# Altium integrated library TI Power Management Linear Regulator Dual Channel LDO.IntLib: 299 symbols (part 9 of 15)
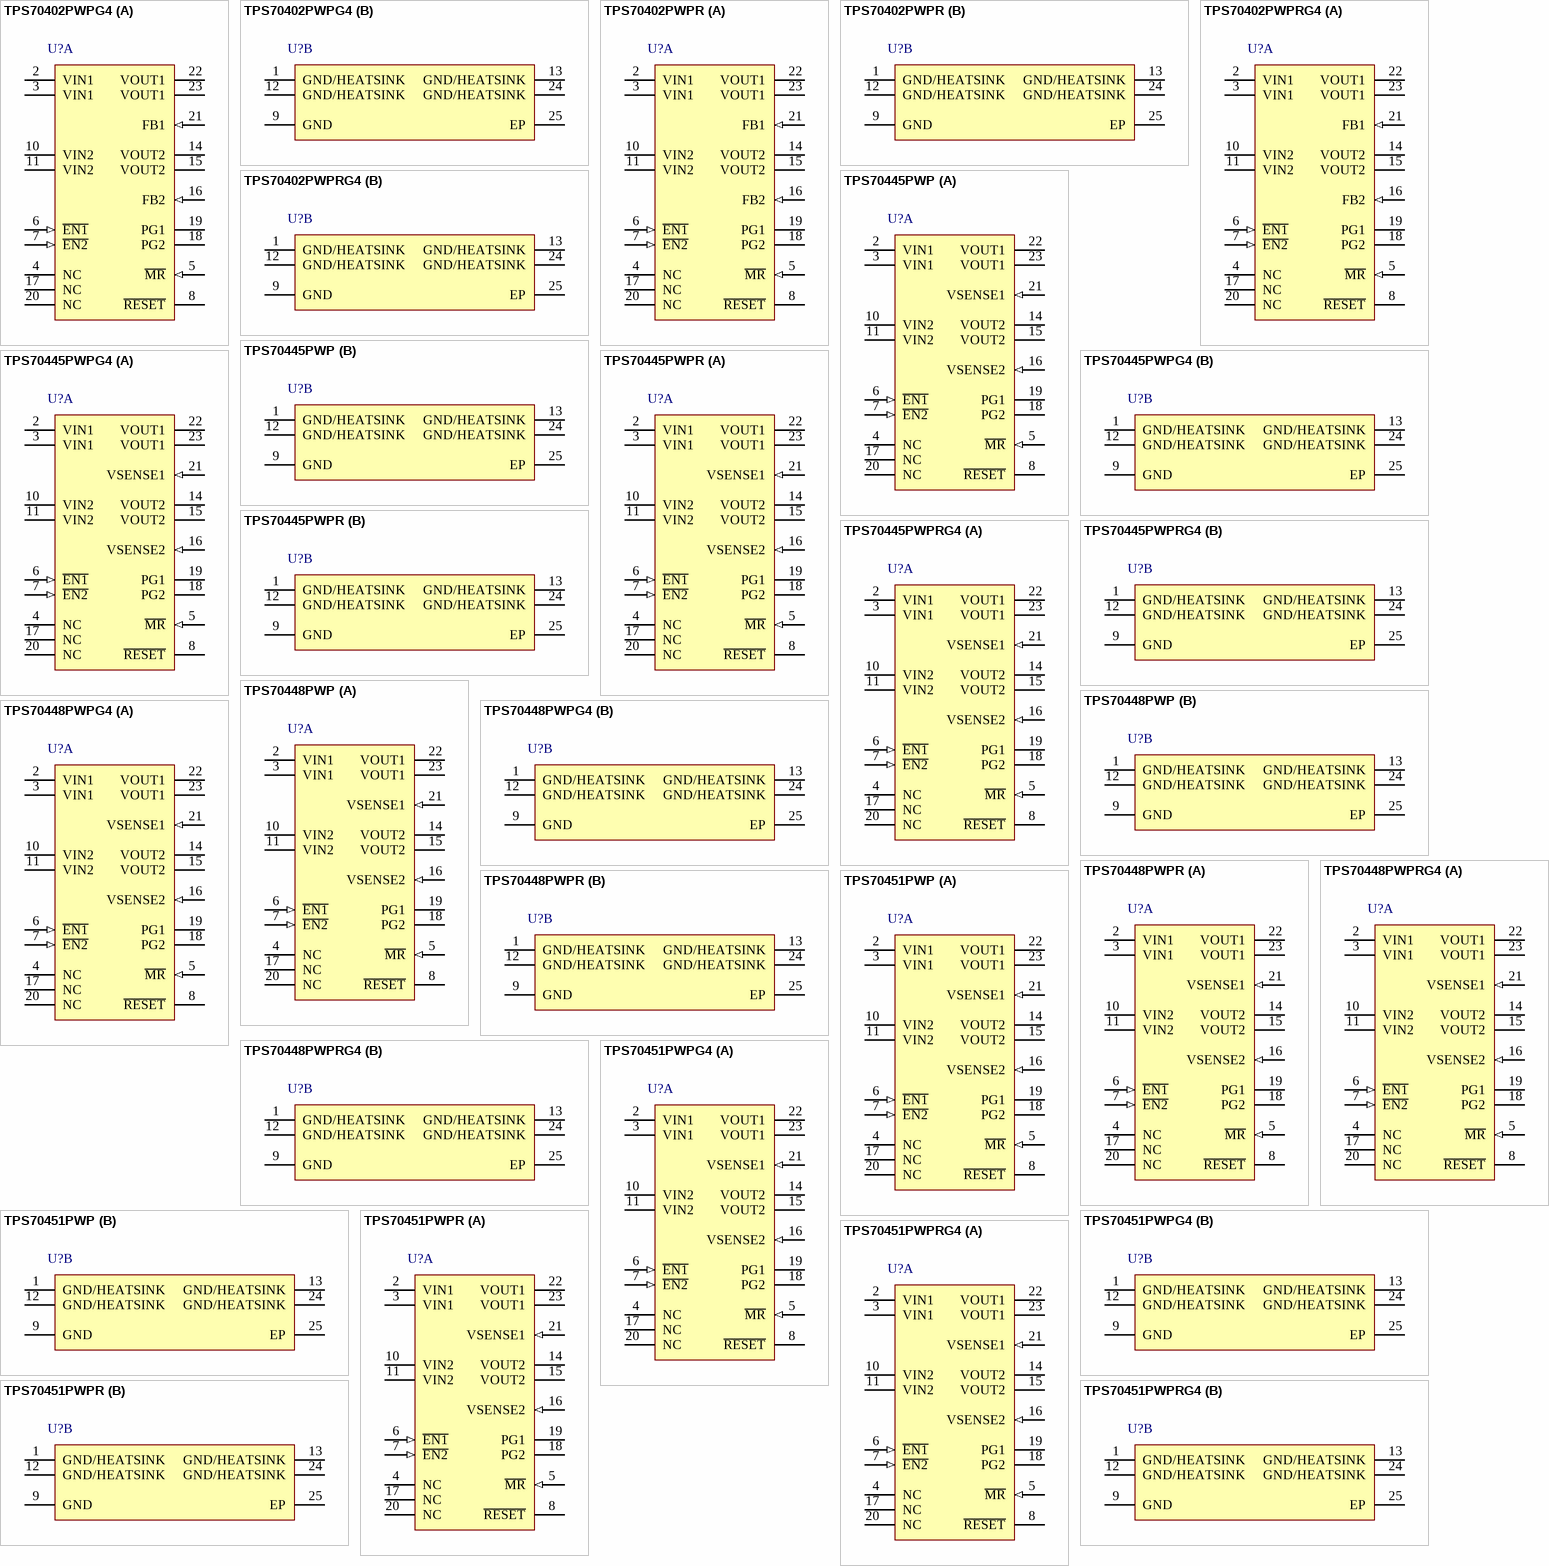
[diagram p19: symbols TPS70402PWPG4 to TPS70451PWPRG4]

## TPS70402PWPG4
designator U?
Dual Output LDO, 1 A, 2.7 to 6 V Input, with Integrated SVS, 24-pin HTSSOP (PWP), -40 to 125 degC, Green (RoHS & no Sb/Br); Manufacturer: Texas Instruments; PartNumber: TPS70402PWPG4; Iout(Max)(A): 1; Iout2(A): 2; Iq(Typ)(mA): 0.18; SubFamily: Dual Channel LDO; Vdo(Typ)(mV): 160; Vin(Max)(V): 6; Vin(Min)(V): 2.7; Vout2(Max)(V): 5.5; Vout2(Min)(V): 1.2; DatasheetVersion: SLVS307F; PackageVersion: 4073225-5/I; PackageReference: PWP24-4210X2010TP; PackageDescription: 24-Pin Plastic Small Outline, Body 4.4 x 7.8 mm, Pitch 0.65 mm; Supplier 1: Digi-Key; Supplier Part Number 1: TPS70402PWPG4-ND; Supplier 2: Farnell; Supplier Part Number 2: 1234975; Supplier 3: Newark; Supplier Part Number 3: 13M3299; Supplier 4: Mouser; Supplier Part Number 4: 595-TPS70402PWPG4; Eco-Plan: Green (RoHS & no Sb/Br); Mounting Technology: Surface Mount; Code_JEDEC: MO-153; ComponentLink1Description: Manufacturer URL; ComponentLink1URL: http://www.ti.com/; ComponentLink2Description: Datasheet; ComponentLink2URL: http://www.ti.com/general/docs/lit/getliterature.tsp?genericPartNumber=TPS70402&fileType=pdf; ComponentLink3Description: Package Specification; ComponentLink3URL: http://www.ti.com/litv/pdf/mpds372
footprint TI-PWP24-4210X2010TP_N (SOP, 24-Leads, Body 7.8x4.4mm, Pitch 0.65mm, Thermal Pad 4.205X2.005mm, IPC Medium Density)
footprint TI-PWP24-4210X2010TP_L (SOP, 24-Leads, Body 7.8x4.4mm, Pitch 0.65mm, Thermal Pad 4.205X2.005mm, IPC High Density)
footprint TI-PWP24-4210X2010TP_M (SOP, 24-Leads, Body 7.8x4.4mm, Pitch 0.65mm, Thermal Pad 4.205X2.005mm, IPC Low Density)
part A pins: 2 VIN1 (power) "Input voltage of regulator 1", 3 VIN1 (power) "Input voltage of regulator 1", 4 NC "No connection", 5 ~{MR} (in) "Manual reset input, active low, pulled up internally", 6 ~{EN1} (in) "Active low enable for VOUT1", 7 ~{EN2} (in) "Active low enable for VOUT2", 8 ~{RESET} (hiz) "Open drain output, SVS (power-on reset) signal, active low", 10 VIN2 (power) "Input voltage of regulator 2", 11 VIN2 (power) "Input voltage of regulator 2", 14 VOUT2 (power) "Output voltage of regulator 2", 15 VOUT2 (power) "Output voltage of regulator 2", 16 FB2 (in) "Regulator 2 feedback for adjustable", 17 NC "No connection", 18 PG2 (hiz) "Open drain output, low when VOUT2 voltage is less than 95% of the nominal regulated voltage", 19 PG1 (hiz) "Open drain output, low when VOUT1 voltage is less than 95% of the nominal regulated voltage", 20 NC "No connection", 21 FB1 (in) "Regulator 1 feedback for adjustable", 22 VOUT1 (power) "Output voltage of regulator 1", 23 VOUT1 (power) "Output voltage of regulator 1"
part B pins: 1 GND/HEATSINK (power) "Ground/heatsink", 9 GND (power) "Ground", 12 GND/HEATSINK (power) "Ground/heatsink", 13 GND/HEATSINK (power) "Ground/heatsink", 24 GND/HEATSINK (power) "Ground/heatsink", 25 EP "Exposed Thermal Pad"

## TPS70402PWPR
designator U?
Dual Output LDO, 1 A, 2.7 to 6 V Input, with Integrated SVS, 24-pin HTSSOP (PWP), -40 to 125 degC, Green (RoHS & no Sb/Br); Manufacturer: Texas Instruments; PartNumber: TPS70402PWPR; Iout(Max)(A): 1; Iout2(A): 2; Iq(Typ)(mA): 0.18; SubFamily: Dual Channel LDO; Vdo(Typ)(mV): 160; Vin(Max)(V): 6; Vin(Min)(V): 2.7; Vout2(Max)(V): 5.5; Vout2(Min)(V): 1.2; DatasheetVersion: SLVS307F; PackageVersion: 4073225-5/I; PackageReference: PWP24-4210X2010TP; PackageDescription: 24-Pin Plastic Small Outline, Body 4.4 x 7.8 mm, Pitch 0.65 mm; Supplier 1: Digi-Key; Supplier Part Number 1: TPS70402PWPR-ND; Supplier 2: Newark; Supplier Part Number 2: 77C0771; Supplier 3: Mouser; Supplier Part Number 3: 595-TPS70402PWPR; Eco-Plan: Green (RoHS & no Sb/Br); Mounting Technology: Surface Mount; Code_JEDEC: MO-153; ComponentLink1Description: Manufacturer URL; ComponentLink1URL: http://www.ti.com/; ComponentLink2Description: Datasheet; ComponentLink2URL: http://www.ti.com/general/docs/lit/getliterature.tsp?genericPartNumber=TPS70402&fileType=pdf; ComponentLink3Description: Package Specification; ComponentLink3URL: http://www.ti.com/litv/pdf/mpds372
footprint TI-PWP24-4210X2010TP_N (SOP, 24-Leads, Body 7.8x4.4mm, Pitch 0.65mm, Thermal Pad 4.205X2.005mm, IPC Medium Density)
footprint TI-PWP24-4210X2010TP_L (SOP, 24-Leads, Body 7.8x4.4mm, Pitch 0.65mm, Thermal Pad 4.205X2.005mm, IPC High Density)
footprint TI-PWP24-4210X2010TP_M (SOP, 24-Leads, Body 7.8x4.4mm, Pitch 0.65mm, Thermal Pad 4.205X2.005mm, IPC Low Density)
part A pins: 2 VIN1 (power) "Input voltage of regulator 1", 3 VIN1 (power) "Input voltage of regulator 1", 4 NC "No connection", 5 ~{MR} (in) "Manual reset input, active low, pulled up internally", 6 ~{EN1} (in) "Active low enable for VOUT1", 7 ~{EN2} (in) "Active low enable for VOUT2", 8 ~{RESET} (hiz) "Open drain output, SVS (power-on reset) signal, active low", 10 VIN2 (power) "Input voltage of regulator 2", 11 VIN2 (power) "Input voltage of regulator 2", 14 VOUT2 (power) "Output voltage of regulator 2", 15 VOUT2 (power) "Output voltage of regulator 2", 16 FB2 (in) "Regulator 2 feedback for adjustable", 17 NC "No connection", 18 PG2 (hiz) "Open drain output, low when VOUT2 voltage is less than 95% of the nominal regulated voltage", 19 PG1 (hiz) "Open drain output, low when VOUT1 voltage is less than 95% of the nominal regulated voltage", 20 NC "No connection", 21 FB1 (in) "Regulator 1 feedback for adjustable", 22 VOUT1 (power) "Output voltage of regulator 1", 23 VOUT1 (power) "Output voltage of regulator 1"
part B pins: 1 GND/HEATSINK (power) "Ground/heatsink", 9 GND (power) "Ground", 12 GND/HEATSINK (power) "Ground/heatsink", 13 GND/HEATSINK (power) "Ground/heatsink", 24 GND/HEATSINK (power) "Ground/heatsink", 25 EP "Exposed Thermal Pad"

## TPS70402PWPRG4
designator U?
Dual Output LDO, 1 A, 2.7 to 6 V Input, with Integrated SVS, 24-pin HTSSOP (PWP), -40 to 125 degC, Green (RoHS & no Sb/Br); Manufacturer: Texas Instruments; PartNumber: TPS70402PWPRG4; Iout(Max)(A): 1; Iout2(A): 2; Iq(Typ)(mA): 0.18; SubFamily: Dual Channel LDO; Vdo(Typ)(mV): 160; Vin(Max)(V): 6; Vin(Min)(V): 2.7; Vout2(Max)(V): 5.5; Vout2(Min)(V): 1.2; DatasheetVersion: SLVS307F; PackageVersion: 4073225-5/I; PackageReference: PWP24-4210X2010TP; PackageDescription: 24-Pin Plastic Small Outline, Body 4.4 x 7.8 mm, Pitch 0.65 mm; Supplier 1: Digi-Key; Supplier Part Number 1: TPS70402PWPRG4-ND; Supplier 2: Mouser; Supplier Part Number 2: 595-TPS70402PWPRG4; Eco-Plan: Green (RoHS & no Sb/Br); Mounting Technology: Surface Mount; Code_JEDEC: MO-153; ComponentLink1Description: Manufacturer URL; ComponentLink1URL: http://www.ti.com/; ComponentLink2Description: Datasheet; ComponentLink2URL: http://www.ti.com/general/docs/lit/getliterature.tsp?genericPartNumber=TPS70402&fileType=pdf; ComponentLink3Description: Package Specification; ComponentLink3URL: http://www.ti.com/litv/pdf/mpds372
footprint TI-PWP24-4210X2010TP_N (SOP, 24-Leads, Body 7.8x4.4mm, Pitch 0.65mm, Thermal Pad 4.205X2.005mm, IPC Medium Density)
footprint TI-PWP24-4210X2010TP_L (SOP, 24-Leads, Body 7.8x4.4mm, Pitch 0.65mm, Thermal Pad 4.205X2.005mm, IPC High Density)
footprint TI-PWP24-4210X2010TP_M (SOP, 24-Leads, Body 7.8x4.4mm, Pitch 0.65mm, Thermal Pad 4.205X2.005mm, IPC Low Density)
part A pins: 2 VIN1 (power) "Input voltage of regulator 1", 3 VIN1 (power) "Input voltage of regulator 1", 4 NC "No connection", 5 ~{MR} (in) "Manual reset input, active low, pulled up internally", 6 ~{EN1} (in) "Active low enable for VOUT1", 7 ~{EN2} (in) "Active low enable for VOUT2", 8 ~{RESET} (hiz) "Open drain output, SVS (power-on reset) signal, active low", 10 VIN2 (power) "Input voltage of regulator 2", 11 VIN2 (power) "Input voltage of regulator 2", 14 VOUT2 (power) "Output voltage of regulator 2", 15 VOUT2 (power) "Output voltage of regulator 2", 16 FB2 (in) "Regulator 2 feedback for adjustable", 17 NC "No connection", 18 PG2 (hiz) "Open drain output, low when VOUT2 voltage is less than 95% of the nominal regulated voltage", 19 PG1 (hiz) "Open drain output, low when VOUT1 voltage is less than 95% of the nominal regulated voltage", 20 NC "No connection", 21 FB1 (in) "Regulator 1 feedback for adjustable", 22 VOUT1 (power) "Output voltage of regulator 1", 23 VOUT1 (power) "Output voltage of regulator 1"
part B pins: 1 GND/HEATSINK (power) "Ground/heatsink", 9 GND (power) "Ground", 12 GND/HEATSINK (power) "Ground/heatsink", 13 GND/HEATSINK (power) "Ground/heatsink", 24 GND/HEATSINK (power) "Ground/heatsink", 25 EP "Exposed Thermal Pad"

## TPS70445PWP
designator U?
Dual Output LDO, 1 A, Fixed 3.3, 1.2 V Output, 2.7 to 6 V Input, with Integrated SVS, 24-pin HTSSOP (PWP), -40 to 125 degC, Green (RoHS & no Sb/Br); Manufacturer: Texas Instruments; PartNumber: TPS70445PWP; Iout(Max)(A): 1; Iout2(A): 2; Iq(Typ)(mA): 0.18; SubFamily: Dual Channel LDO; Vdo(Typ)(mV): 160; Vin(Max)(V): 6; Vin(Min)(V): 2.7; Vout(Max)(V): 3.3; Vout2(Max)(V): 1.2; DatasheetVersion: SLVS307F; PackageVersion: 4073225-5/I; PackageReference: PWP24-4210X2010TP; PackageDescription: 24-Pin Plastic Small Outline, Body 4.4 x 7.8 mm, Pitch 0.65 mm; Supplier 1: Digi-Key; Supplier Part Number 1: 296-8027-5-ND; Supplier 2: Newark; Supplier Part Number 2: 77C0772; Supplier 3: Mouser; Supplier Part Number 3: 595-TPS70445PWP; Eco-Plan: Green (RoHS & no Sb/Br); Fixed Output Options(V): 3.3, 1.2; Vout(Min)(V): 3.3; Vout2(Min)(V): 1.2; Mounting Technology: Surface Mount; Code_JEDEC: MO-153; ComponentLink1Description: Manufacturer URL; ComponentLink1URL: http://www.ti.com/; ComponentLink2Description: Datasheet; ComponentLink2URL: http://www.ti.com/general/docs/lit/getliterature.tsp?genericPartNumber=TPS70445&fileType=pdf; ComponentLink3Description: Package Specification; ComponentLink3URL: http://www.ti.com/litv/pdf/mpds372
footprint TI-PWP24-4210X2010TP_N (SOP, 24-Leads, Body 7.8x4.4mm, Pitch 0.65mm, Thermal Pad 4.205X2.005mm, IPC Medium Density)
footprint TI-PWP24-4210X2010TP_L (SOP, 24-Leads, Body 7.8x4.4mm, Pitch 0.65mm, Thermal Pad 4.205X2.005mm, IPC High Density)
footprint TI-PWP24-4210X2010TP_M (SOP, 24-Leads, Body 7.8x4.4mm, Pitch 0.65mm, Thermal Pad 4.205X2.005mm, IPC Low Density)
part A pins: 2 VIN1 (power) "Input voltage of regulator 1", 3 VIN1 (power) "Input voltage of regulator 1", 4 NC "No connection", 5 ~{MR} (in) "Manual reset input, active low, pulled up internally", 6 ~{EN1} (in) "Active low enable for VOUT1", 7 ~{EN2} (in) "Active low enable for VOUT2", 8 ~{RESET} (hiz) "Open drain output, SVS (power-on reset) signal, active low", 10 VIN2 (power) "Input voltage of regulator 2", 11 VIN2 (power) "Input voltage of regulator 2", 14 VOUT2 (power) "Output voltage of regulator 2", 15 VOUT2 (power) "Output voltage of regulator 2", 16 VSENSE2 (in) "Regulator 2 output voltage sense", 17 NC "No connection", 18 PG2 (hiz) "Open drain output, low when VOUT2 voltage is less than 95% of the nominal regulated voltage", 19 PG1 (hiz) "Open drain output, low when VOUT1 voltage is less than 95% of the nominal regulated voltage", 20 NC "No connection", 21 VSENSE1 (in) "Regulator 1 output voltage sense", 22 VOUT1 (power) "Output voltage of regulator 1", 23 VOUT1 (power) "Output voltage of regulator 1"
part B pins: 1 GND/HEATSINK (power) "Ground/heatsink", 9 GND (power) "Ground", 12 GND/HEATSINK (power) "Ground/heatsink", 13 GND/HEATSINK (power) "Ground/heatsink", 24 GND/HEATSINK (power) "Ground/heatsink", 25 EP "Exposed Thermal Pad"

## TPS70445PWPG4
designator U?
Dual Output LDO, 1 A, Fixed 3.3, 1.2 V Output, 2.7 to 6 V Input, with Integrated SVS, 24-pin HTSSOP (PWP), -40 to 125 degC, Green (RoHS & no Sb/Br); Manufacturer: Texas Instruments; PartNumber: TPS70445PWPG4; Iout(Max)(A): 1; Iout2(A): 2; Iq(Typ)(mA): 0.18; SubFamily: Dual Channel LDO; Vdo(Typ)(mV): 160; Vin(Max)(V): 6; Vin(Min)(V): 2.7; Vout(Max)(V): 3.3; Vout2(Max)(V): 1.2; DatasheetVersion: SLVS307F; PackageVersion: 4073225-5/I; PackageReference: PWP24-4210X2010TP; PackageDescription: 24-Pin Plastic Small Outline, Body 4.4 x 7.8 mm, Pitch 0.65 mm; Supplier 1: Digi-Key; Supplier Part Number 1: TPS70445PWPG4-ND; Supplier 2: Mouser; Supplier Part Number 2: 595-TPS70445PWPG4; Eco-Plan: Green (RoHS & no Sb/Br); Fixed Output Options(V): 3.3, 1.2; Vout(Min)(V): 3.3; Vout2(Min)(V): 1.2; Mounting Technology: Surface Mount; Code_JEDEC: MO-153; ComponentLink1Description: Manufacturer URL; ComponentLink1URL: http://www.ti.com/; ComponentLink2Description: Datasheet; ComponentLink2URL: http://www.ti.com/general/docs/lit/getliterature.tsp?genericPartNumber=TPS70445&fileType=pdf; ComponentLink3Description: Package Specification; ComponentLink3URL: http://www.ti.com/litv/pdf/mpds372
footprint TI-PWP24-4210X2010TP_N (SOP, 24-Leads, Body 7.8x4.4mm, Pitch 0.65mm, Thermal Pad 4.205X2.005mm, IPC Medium Density)
footprint TI-PWP24-4210X2010TP_L (SOP, 24-Leads, Body 7.8x4.4mm, Pitch 0.65mm, Thermal Pad 4.205X2.005mm, IPC High Density)
footprint TI-PWP24-4210X2010TP_M (SOP, 24-Leads, Body 7.8x4.4mm, Pitch 0.65mm, Thermal Pad 4.205X2.005mm, IPC Low Density)
part A pins: 2 VIN1 (power) "Input voltage of regulator 1", 3 VIN1 (power) "Input voltage of regulator 1", 4 NC "No connection", 5 ~{MR} (in) "Manual reset input, active low, pulled up internally", 6 ~{EN1} (in) "Active low enable for VOUT1", 7 ~{EN2} (in) "Active low enable for VOUT2", 8 ~{RESET} (hiz) "Open drain output, SVS (power-on reset) signal, active low", 10 VIN2 (power) "Input voltage of regulator 2", 11 VIN2 (power) "Input voltage of regulator 2", 14 VOUT2 (power) "Output voltage of regulator 2", 15 VOUT2 (power) "Output voltage of regulator 2", 16 VSENSE2 (in) "Regulator 2 output voltage sense", 17 NC "No connection", 18 PG2 (hiz) "Open drain output, low when VOUT2 voltage is less than 95% of the nominal regulated voltage", 19 PG1 (hiz) "Open drain output, low when VOUT1 voltage is less than 95% of the nominal regulated voltage", 20 NC "No connection", 21 VSENSE1 (in) "Regulator 1 output voltage sense", 22 VOUT1 (power) "Output voltage of regulator 1", 23 VOUT1 (power) "Output voltage of regulator 1"
part B pins: 1 GND/HEATSINK (power) "Ground/heatsink", 9 GND (power) "Ground", 12 GND/HEATSINK (power) "Ground/heatsink", 13 GND/HEATSINK (power) "Ground/heatsink", 24 GND/HEATSINK (power) "Ground/heatsink", 25 EP "Exposed Thermal Pad"

## TPS70445PWPR
designator U?
Dual Output LDO, 1 A, Fixed 3.3, 1.2 V Output, 2.7 to 6 V Input, with Integrated SVS, 24-pin HTSSOP (PWP), -40 to 125 degC, Green (RoHS & no Sb/Br); Manufacturer: Texas Instruments; PartNumber: TPS70445PWPR; Iout(Max)(A): 1; Iout2(A): 2; Iq(Typ)(mA): 0.18; SubFamily: Dual Channel LDO; Vdo(Typ)(mV): 160; Vin(Max)(V): 6; Vin(Min)(V): 2.7; Vout(Max)(V): 3.3; Vout2(Max)(V): 1.2; DatasheetVersion: SLVS307F; PackageVersion: 4073225-5/I; PackageReference: PWP24-4210X2010TP; PackageDescription: 24-Pin Plastic Small Outline, Body 4.4 x 7.8 mm, Pitch 0.65 mm; Supplier 1: Digi-Key; Supplier Part Number 1: TPS70445PWPR-ND; Supplier 2: Mouser; Supplier Part Number 2: 595-TPS70445PWPR; Eco-Plan: Green (RoHS & no Sb/Br); Fixed Output Options(V): 3.3, 1.2; Vout(Min)(V): 3.3; Vout2(Min)(V): 1.2; Mounting Technology: Surface Mount; Code_JEDEC: MO-153; ComponentLink1Description: Manufacturer URL; ComponentLink1URL: http://www.ti.com/; ComponentLink2Description: Datasheet; ComponentLink2URL: http://www.ti.com/general/docs/lit/getliterature.tsp?genericPartNumber=TPS70445&fileType=pdf; ComponentLink3Description: Package Specification; ComponentLink3URL: http://www.ti.com/litv/pdf/mpds372
footprint TI-PWP24-4210X2010TP_N (SOP, 24-Leads, Body 7.8x4.4mm, Pitch 0.65mm, Thermal Pad 4.205X2.005mm, IPC Medium Density)
footprint TI-PWP24-4210X2010TP_L (SOP, 24-Leads, Body 7.8x4.4mm, Pitch 0.65mm, Thermal Pad 4.205X2.005mm, IPC High Density)
footprint TI-PWP24-4210X2010TP_M (SOP, 24-Leads, Body 7.8x4.4mm, Pitch 0.65mm, Thermal Pad 4.205X2.005mm, IPC Low Density)
part A pins: 2 VIN1 (power) "Input voltage of regulator 1", 3 VIN1 (power) "Input voltage of regulator 1", 4 NC "No connection", 5 ~{MR} (in) "Manual reset input, active low, pulled up internally", 6 ~{EN1} (in) "Active low enable for VOUT1", 7 ~{EN2} (in) "Active low enable for VOUT2", 8 ~{RESET} (hiz) "Open drain output, SVS (power-on reset) signal, active low", 10 VIN2 (power) "Input voltage of regulator 2", 11 VIN2 (power) "Input voltage of regulator 2", 14 VOUT2 (power) "Output voltage of regulator 2", 15 VOUT2 (power) "Output voltage of regulator 2", 16 VSENSE2 (in) "Regulator 2 output voltage sense", 17 NC "No connection", 18 PG2 (hiz) "Open drain output, low when VOUT2 voltage is less than 95% of the nominal regulated voltage", 19 PG1 (hiz) "Open drain output, low when VOUT1 voltage is less than 95% of the nominal regulated voltage", 20 NC "No connection", 21 VSENSE1 (in) "Regulator 1 output voltage sense", 22 VOUT1 (power) "Output voltage of regulator 1", 23 VOUT1 (power) "Output voltage of regulator 1"
part B pins: 1 GND/HEATSINK (power) "Ground/heatsink", 9 GND (power) "Ground", 12 GND/HEATSINK (power) "Ground/heatsink", 13 GND/HEATSINK (power) "Ground/heatsink", 24 GND/HEATSINK (power) "Ground/heatsink", 25 EP "Exposed Thermal Pad"

## TPS70445PWPRG4
designator U?
Dual Output LDO, 1 A, Fixed 3.3, 1.2 V Output, 2.7 to 6 V Input, with Integrated SVS, 24-pin HTSSOP (PWP), -40 to 125 degC, Green (RoHS & no Sb/Br); Manufacturer: Texas Instruments; PartNumber: TPS70445PWPRG4; Iout(Max)(A): 1; Iout2(A): 2; Iq(Typ)(mA): 0.18; SubFamily: Dual Channel LDO; Vdo(Typ)(mV): 160; Vin(Max)(V): 6; Vin(Min)(V): 2.7; Vout(Max)(V): 3.3; Vout2(Max)(V): 1.2; DatasheetVersion: SLVS307F; PackageVersion: 4073225-5/I; PackageReference: PWP24-4210X2010TP; PackageDescription: 24-Pin Plastic Small Outline, Body 4.4 x 7.8 mm, Pitch 0.65 mm; Supplier 1: Digi-Key; Supplier Part Number 1: TPS70445PWPRG4-ND; Supplier 2: Mouser; Supplier Part Number 2: 595-TPS70445PWPRG4; Eco-Plan: Green (RoHS & no Sb/Br); Fixed Output Options(V): 3.3, 1.2; Vout(Min)(V): 3.3; Vout2(Min)(V): 1.2; Mounting Technology: Surface Mount; Code_JEDEC: MO-153; ComponentLink1Description: Manufacturer URL; ComponentLink1URL: http://www.ti.com/; ComponentLink2Description: Datasheet; ComponentLink2URL: http://www.ti.com/general/docs/lit/getliterature.tsp?genericPartNumber=TPS70445&fileType=pdf; ComponentLink3Description: Package Specification; ComponentLink3URL: http://www.ti.com/litv/pdf/mpds372
footprint TI-PWP24-4210X2010TP_N (SOP, 24-Leads, Body 7.8x4.4mm, Pitch 0.65mm, Thermal Pad 4.205X2.005mm, IPC Medium Density)
footprint TI-PWP24-4210X2010TP_L (SOP, 24-Leads, Body 7.8x4.4mm, Pitch 0.65mm, Thermal Pad 4.205X2.005mm, IPC High Density)
footprint TI-PWP24-4210X2010TP_M (SOP, 24-Leads, Body 7.8x4.4mm, Pitch 0.65mm, Thermal Pad 4.205X2.005mm, IPC Low Density)
part A pins: 2 VIN1 (power) "Input voltage of regulator 1", 3 VIN1 (power) "Input voltage of regulator 1", 4 NC "No connection", 5 ~{MR} (in) "Manual reset input, active low, pulled up internally", 6 ~{EN1} (in) "Active low enable for VOUT1", 7 ~{EN2} (in) "Active low enable for VOUT2", 8 ~{RESET} (hiz) "Open drain output, SVS (power-on reset) signal, active low", 10 VIN2 (power) "Input voltage of regulator 2", 11 VIN2 (power) "Input voltage of regulator 2", 14 VOUT2 (power) "Output voltage of regulator 2", 15 VOUT2 (power) "Output voltage of regulator 2", 16 VSENSE2 (in) "Regulator 2 output voltage sense", 17 NC "No connection", 18 PG2 (hiz) "Open drain output, low when VOUT2 voltage is less than 95% of the nominal regulated voltage", 19 PG1 (hiz) "Open drain output, low when VOUT1 voltage is less than 95% of the nominal regulated voltage", 20 NC "No connection", 21 VSENSE1 (in) "Regulator 1 output voltage sense", 22 VOUT1 (power) "Output voltage of regulator 1", 23 VOUT1 (power) "Output voltage of regulator 1"
part B pins: 1 GND/HEATSINK (power) "Ground/heatsink", 9 GND (power) "Ground", 12 GND/HEATSINK (power) "Ground/heatsink", 13 GND/HEATSINK (power) "Ground/heatsink", 24 GND/HEATSINK (power) "Ground/heatsink", 25 EP "Exposed Thermal Pad"

## TPS70448PWP
designator U?
Dual Output LDO, 1 A, Fixed 3.3, 1.5 V Output, 2.7 to 6 V Input, with Integrated SVS, 24-pin HTSSOP (PWP), -40 to 125 degC, Green (RoHS & no Sb/Br); Manufacturer: Texas Instruments; PartNumber: TPS70448PWP; Iout(Max)(A): 1; Iout2(A): 2; Iq(Typ)(mA): 0.18; SubFamily: Dual Channel LDO; Vdo(Typ)(mV): 160; Vin(Max)(V): 6; Vin(Min)(V): 2.7; Vout(Max)(V): 3.3; Vout2(Max)(V): 1.5; DatasheetVersion: SLVS307F; PackageVersion: 4073225-5/I; PackageReference: PWP24-4210X2010TP; PackageDescription: 24-Pin Plastic Small Outline, Body 4.4 x 7.8 mm, Pitch 0.65 mm; Supplier 1: Digi-Key; Supplier Part Number 1: 296-8028-5-ND; Supplier 2: Newark; Supplier Part Number 2: 77C0774; Supplier 3: Mouser; Supplier Part Number 3: 595-TPS70448PWP; Eco-Plan: Green (RoHS & no Sb/Br); Fixed Output Options(V): 3.3, 1.5; Vout(Min)(V): 3.3; Vout2(Min)(V): 1.5; Mounting Technology: Surface Mount; Code_JEDEC: MO-153; ComponentLink1Description: Manufacturer URL; ComponentLink1URL: http://www.ti.com/; ComponentLink2Description: Datasheet; ComponentLink2URL: http://www.ti.com/general/docs/lit/getliterature.tsp?genericPartNumber=TPS70448&fileType=pdf; ComponentLink3Description: Package Specification; ComponentLink3URL: http://www.ti.com/litv/pdf/mpds372
footprint TI-PWP24-4210X2010TP_N (SOP, 24-Leads, Body 7.8x4.4mm, Pitch 0.65mm, Thermal Pad 4.205X2.005mm, IPC Medium Density)
footprint TI-PWP24-4210X2010TP_L (SOP, 24-Leads, Body 7.8x4.4mm, Pitch 0.65mm, Thermal Pad 4.205X2.005mm, IPC High Density)
footprint TI-PWP24-4210X2010TP_M (SOP, 24-Leads, Body 7.8x4.4mm, Pitch 0.65mm, Thermal Pad 4.205X2.005mm, IPC Low Density)
part A pins: 2 VIN1 (power) "Input voltage of regulator 1", 3 VIN1 (power) "Input voltage of regulator 1", 4 NC "No connection", 5 ~{MR} (in) "Manual reset input, active low, pulled up internally", 6 ~{EN1} (in) "Active low enable for VOUT1", 7 ~{EN2} (in) "Active low enable for VOUT2", 8 ~{RESET} (hiz) "Open drain output, SVS (power-on reset) signal, active low", 10 VIN2 (power) "Input voltage of regulator 2", 11 VIN2 (power) "Input voltage of regulator 2", 14 VOUT2 (power) "Output voltage of regulator 2", 15 VOUT2 (power) "Output voltage of regulator 2", 16 VSENSE2 (in) "Regulator 2 output voltage sense", 17 NC "No connection", 18 PG2 (hiz) "Open drain output, low when VOUT2 voltage is less than 95% of the nominal regulated voltage", 19 PG1 (hiz) "Open drain output, low when VOUT1 voltage is less than 95% of the nominal regulated voltage", 20 NC "No connection", 21 VSENSE1 (in) "Regulator 1 output voltage sense", 22 VOUT1 (power) "Output voltage of regulator 1", 23 VOUT1 (power) "Output voltage of regulator 1"
part B pins: 1 GND/HEATSINK (power) "Ground/heatsink", 9 GND (power) "Ground", 12 GND/HEATSINK (power) "Ground/heatsink", 13 GND/HEATSINK (power) "Ground/heatsink", 24 GND/HEATSINK (power) "Ground/heatsink", 25 EP "Exposed Thermal Pad"

## TPS70448PWPG4
designator U?
Dual Output LDO, 1 A, Fixed 3.3, 1.5 V Output, 2.7 to 6 V Input, with Integrated SVS, 24-pin HTSSOP (PWP), -40 to 125 degC, Green (RoHS & no Sb/Br); Manufacturer: Texas Instruments; PartNumber: TPS70448PWPG4; Iout(Max)(A): 1; Iout2(A): 2; Iq(Typ)(mA): 0.18; SubFamily: Dual Channel LDO; Vdo(Typ)(mV): 160; Vin(Max)(V): 6; Vin(Min)(V): 2.7; Vout(Max)(V): 3.3; Vout2(Max)(V): 1.5; DatasheetVersion: SLVS307F; PackageVersion: 4073225-5/I; PackageReference: PWP24-4210X2010TP; PackageDescription: 24-Pin Plastic Small Outline, Body 4.4 x 7.8 mm, Pitch 0.65 mm; Supplier 1: Digi-Key; Supplier Part Number 1: TPS70448PWPG4-ND; Supplier 2: Mouser; Supplier Part Number 2: 595-TPS70448PWPG4; Eco-Plan: Green (RoHS & no Sb/Br); Fixed Output Options(V): 3.3, 1.5; Vout(Min)(V): 3.3; Vout2(Min)(V): 1.5; Mounting Technology: Surface Mount; Code_JEDEC: MO-153; ComponentLink1Description: Manufacturer URL; ComponentLink1URL: http://www.ti.com/; ComponentLink2Description: Datasheet; ComponentLink2URL: http://www.ti.com/general/docs/lit/getliterature.tsp?genericPartNumber=TPS70448&fileType=pdf; ComponentLink3Description: Package Specification; ComponentLink3URL: http://www.ti.com/litv/pdf/mpds372
footprint TI-PWP24-4210X2010TP_N (SOP, 24-Leads, Body 7.8x4.4mm, Pitch 0.65mm, Thermal Pad 4.205X2.005mm, IPC Medium Density)
footprint TI-PWP24-4210X2010TP_L (SOP, 24-Leads, Body 7.8x4.4mm, Pitch 0.65mm, Thermal Pad 4.205X2.005mm, IPC High Density)
footprint TI-PWP24-4210X2010TP_M (SOP, 24-Leads, Body 7.8x4.4mm, Pitch 0.65mm, Thermal Pad 4.205X2.005mm, IPC Low Density)
part A pins: 2 VIN1 (power) "Input voltage of regulator 1", 3 VIN1 (power) "Input voltage of regulator 1", 4 NC "No connection", 5 ~{MR} (in) "Manual reset input, active low, pulled up internally", 6 ~{EN1} (in) "Active low enable for VOUT1", 7 ~{EN2} (in) "Active low enable for VOUT2", 8 ~{RESET} (hiz) "Open drain output, SVS (power-on reset) signal, active low", 10 VIN2 (power) "Input voltage of regulator 2", 11 VIN2 (power) "Input voltage of regulator 2", 14 VOUT2 (power) "Output voltage of regulator 2", 15 VOUT2 (power) "Output voltage of regulator 2", 16 VSENSE2 (in) "Regulator 2 output voltage sense", 17 NC "No connection", 18 PG2 (hiz) "Open drain output, low when VOUT2 voltage is less than 95% of the nominal regulated voltage", 19 PG1 (hiz) "Open drain output, low when VOUT1 voltage is less than 95% of the nominal regulated voltage", 20 NC "No connection", 21 VSENSE1 (in) "Regulator 1 output voltage sense", 22 VOUT1 (power) "Output voltage of regulator 1", 23 VOUT1 (power) "Output voltage of regulator 1"
part B pins: 1 GND/HEATSINK (power) "Ground/heatsink", 9 GND (power) "Ground", 12 GND/HEATSINK (power) "Ground/heatsink", 13 GND/HEATSINK (power) "Ground/heatsink", 24 GND/HEATSINK (power) "Ground/heatsink", 25 EP "Exposed Thermal Pad"

## TPS70448PWPR
designator U?
Dual Output LDO, 1 A, Fixed 3.3, 1.5 V Output, 2.7 to 6 V Input, with Integrated SVS, 24-pin HTSSOP (PWP), -40 to 125 degC, Green (RoHS & no Sb/Br); Manufacturer: Texas Instruments; PartNumber: TPS70448PWPR; Iout(Max)(A): 1; Iout2(A): 2; Iq(Typ)(mA): 0.18; SubFamily: Dual Channel LDO; Vdo(Typ)(mV): 160; Vin(Max)(V): 6; Vin(Min)(V): 2.7; Vout(Max)(V): 3.3; Vout2(Max)(V): 1.5; DatasheetVersion: SLVS307F; PackageVersion: 4073225-5/I; PackageReference: PWP24-4210X2010TP; PackageDescription: 24-Pin Plastic Small Outline, Body 4.4 x 7.8 mm, Pitch 0.65 mm; Supplier 1: Digi-Key; Supplier Part Number 1: TPS70448PWPR-ND; Supplier 2: Mouser; Supplier Part Number 2: 595-TPS70448PWPR; Eco-Plan: Green (RoHS & no Sb/Br); Fixed Output Options(V): 3.3, 1.5; Vout(Min)(V): 3.3; Vout2(Min)(V): 1.5; Mounting Technology: Surface Mount; Code_JEDEC: MO-153; ComponentLink1Description: Manufacturer URL; ComponentLink1URL: http://www.ti.com/; ComponentLink2Description: Datasheet; ComponentLink2URL: http://www.ti.com/general/docs/lit/getliterature.tsp?genericPartNumber=TPS70448&fileType=pdf; ComponentLink3Description: Package Specification; ComponentLink3URL: http://www.ti.com/litv/pdf/mpds372
footprint TI-PWP24-4210X2010TP_N (SOP, 24-Leads, Body 7.8x4.4mm, Pitch 0.65mm, Thermal Pad 4.205X2.005mm, IPC Medium Density)
footprint TI-PWP24-4210X2010TP_L (SOP, 24-Leads, Body 7.8x4.4mm, Pitch 0.65mm, Thermal Pad 4.205X2.005mm, IPC High Density)
footprint TI-PWP24-4210X2010TP_M (SOP, 24-Leads, Body 7.8x4.4mm, Pitch 0.65mm, Thermal Pad 4.205X2.005mm, IPC Low Density)
part A pins: 2 VIN1 (power) "Input voltage of regulator 1", 3 VIN1 (power) "Input voltage of regulator 1", 4 NC "No connection", 5 ~{MR} (in) "Manual reset input, active low, pulled up internally", 6 ~{EN1} (in) "Active low enable for VOUT1", 7 ~{EN2} (in) "Active low enable for VOUT2", 8 ~{RESET} (hiz) "Open drain output, SVS (power-on reset) signal, active low", 10 VIN2 (power) "Input voltage of regulator 2", 11 VIN2 (power) "Input voltage of regulator 2", 14 VOUT2 (power) "Output voltage of regulator 2", 15 VOUT2 (power) "Output voltage of regulator 2", 16 VSENSE2 (in) "Regulator 2 output voltage sense", 17 NC "No connection", 18 PG2 (hiz) "Open drain output, low when VOUT2 voltage is less than 95% of the nominal regulated voltage", 19 PG1 (hiz) "Open drain output, low when VOUT1 voltage is less than 95% of the nominal regulated voltage", 20 NC "No connection", 21 VSENSE1 (in) "Regulator 1 output voltage sense", 22 VOUT1 (power) "Output voltage of regulator 1", 23 VOUT1 (power) "Output voltage of regulator 1"
part B pins: 1 GND/HEATSINK (power) "Ground/heatsink", 9 GND (power) "Ground", 12 GND/HEATSINK (power) "Ground/heatsink", 13 GND/HEATSINK (power) "Ground/heatsink", 24 GND/HEATSINK (power) "Ground/heatsink", 25 EP "Exposed Thermal Pad"

## TPS70448PWPRG4
designator U?
Dual Output LDO, 1 A, Fixed 3.3, 1.5 V Output, 2.7 to 6 V Input, with Integrated SVS, 24-pin HTSSOP (PWP), -40 to 125 degC, Green (RoHS & no Sb/Br); Manufacturer: Texas Instruments; PartNumber: TPS70448PWPRG4; Iout(Max)(A): 1; Iout2(A): 2; Iq(Typ)(mA): 0.18; SubFamily: Dual Channel LDO; Vdo(Typ)(mV): 160; Vin(Max)(V): 6; Vin(Min)(V): 2.7; Vout(Max)(V): 3.3; Vout2(Max)(V): 1.5; DatasheetVersion: SLVS307F; PackageVersion: 4073225-5/I; PackageReference: PWP24-4210X2010TP; PackageDescription: 24-Pin Plastic Small Outline, Body 4.4 x 7.8 mm, Pitch 0.65 mm; Supplier 1: Digi-Key; Supplier Part Number 1: TPS70448PWPRG4-ND; Supplier 2: Mouser; Supplier Part Number 2: 595-TPS70448PWPRG4; Eco-Plan: Green (RoHS & no Sb/Br); Fixed Output Options(V): 3.3, 1.5; Vout(Min)(V): 3.3; Vout2(Min)(V): 1.5; Mounting Technology: Surface Mount; Code_JEDEC: MO-153; ComponentLink1Description: Manufacturer URL; ComponentLink1URL: http://www.ti.com/; ComponentLink2Description: Datasheet; ComponentLink2URL: http://www.ti.com/general/docs/lit/getliterature.tsp?genericPartNumber=TPS70448&fileType=pdf; ComponentLink3Description: Package Specification; ComponentLink3URL: http://www.ti.com/litv/pdf/mpds372
footprint TI-PWP24-4210X2010TP_N (SOP, 24-Leads, Body 7.8x4.4mm, Pitch 0.65mm, Thermal Pad 4.205X2.005mm, IPC Medium Density)
footprint TI-PWP24-4210X2010TP_L (SOP, 24-Leads, Body 7.8x4.4mm, Pitch 0.65mm, Thermal Pad 4.205X2.005mm, IPC High Density)
footprint TI-PWP24-4210X2010TP_M (SOP, 24-Leads, Body 7.8x4.4mm, Pitch 0.65mm, Thermal Pad 4.205X2.005mm, IPC Low Density)
part A pins: 2 VIN1 (power) "Input voltage of regulator 1", 3 VIN1 (power) "Input voltage of regulator 1", 4 NC "No connection", 5 ~{MR} (in) "Manual reset input, active low, pulled up internally", 6 ~{EN1} (in) "Active low enable for VOUT1", 7 ~{EN2} (in) "Active low enable for VOUT2", 8 ~{RESET} (hiz) "Open drain output, SVS (power-on reset) signal, active low", 10 VIN2 (power) "Input voltage of regulator 2", 11 VIN2 (power) "Input voltage of regulator 2", 14 VOUT2 (power) "Output voltage of regulator 2", 15 VOUT2 (power) "Output voltage of regulator 2", 16 VSENSE2 (in) "Regulator 2 output voltage sense", 17 NC "No connection", 18 PG2 (hiz) "Open drain output, low when VOUT2 voltage is less than 95% of the nominal regulated voltage", 19 PG1 (hiz) "Open drain output, low when VOUT1 voltage is less than 95% of the nominal regulated voltage", 20 NC "No connection", 21 VSENSE1 (in) "Regulator 1 output voltage sense", 22 VOUT1 (power) "Output voltage of regulator 1", 23 VOUT1 (power) "Output voltage of regulator 1"
part B pins: 1 GND/HEATSINK (power) "Ground/heatsink", 9 GND (power) "Ground", 12 GND/HEATSINK (power) "Ground/heatsink", 13 GND/HEATSINK (power) "Ground/heatsink", 24 GND/HEATSINK (power) "Ground/heatsink", 25 EP "Exposed Thermal Pad"

## TPS70451PWP
designator U?
Dual Output LDO, 1 A, Fixed 3.3, 1.8 V Output, 2.7 to 6 V Input, with Integrated SVS, 24-pin HTSSOP (PWP), -40 to 125 degC, Green (RoHS & no Sb/Br); Manufacturer: Texas Instruments; PartNumber: TPS70451PWP; Iout(Max)(A): 1; Iout2(A): 2; Iq(Typ)(mA): 0.18; SubFamily: Dual Channel LDO; Vdo(Typ)(mV): 160; Vin(Max)(V): 6; Vin(Min)(V): 2.7; Vout(Max)(V): 3.3; Vout2(Max)(V): 1.8; DatasheetVersion: SLVS307F; PackageVersion: 4073225-5/I; PackageReference: PWP24-4210X2010TP; PackageDescription: 24-Pin Plastic Small Outline, Body 4.4 x 7.8 mm, Pitch 0.65 mm; Supplier 1: Digi-Key; Supplier Part Number 1: 296-8029-5-ND; Supplier 2: Newark; Supplier Part Number 2: 77C0776; Supplier 3: Mouser; Supplier Part Number 3: 595-TPS70451PWP; Eco-Plan: Green (RoHS & no Sb/Br); Fixed Output Options(V): 3.3, 1.8; Vout(Min)(V): 3.3; Vout2(Min)(V): 1.8; Mounting Technology: Surface Mount; Code_JEDEC: MO-153; ComponentLink1Description: Manufacturer URL; ComponentLink1URL: http://www.ti.com/; ComponentLink2Description: Datasheet; ComponentLink2URL: http://www.ti.com/general/docs/lit/getliterature.tsp?genericPartNumber=TPS70451&fileType=pdf; ComponentLink3Description: Package Specification; ComponentLink3URL: http://www.ti.com/litv/pdf/mpds372
footprint TI-PWP24-4210X2010TP_N (SOP, 24-Leads, Body 7.8x4.4mm, Pitch 0.65mm, Thermal Pad 4.205X2.005mm, IPC Medium Density)
footprint TI-PWP24-4210X2010TP_L (SOP, 24-Leads, Body 7.8x4.4mm, Pitch 0.65mm, Thermal Pad 4.205X2.005mm, IPC High Density)
footprint TI-PWP24-4210X2010TP_M (SOP, 24-Leads, Body 7.8x4.4mm, Pitch 0.65mm, Thermal Pad 4.205X2.005mm, IPC Low Density)
part A pins: 2 VIN1 (power) "Input voltage of regulator 1", 3 VIN1 (power) "Input voltage of regulator 1", 4 NC "No connection", 5 ~{MR} (in) "Manual reset input, active low, pulled up internally", 6 ~{EN1} (in) "Active low enable for VOUT1", 7 ~{EN2} (in) "Active low enable for VOUT2", 8 ~{RESET} (hiz) "Open drain output, SVS (power-on reset) signal, active low", 10 VIN2 (power) "Input voltage of regulator 2", 11 VIN2 (power) "Input voltage of regulator 2", 14 VOUT2 (power) "Output voltage of regulator 2", 15 VOUT2 (power) "Output voltage of regulator 2", 16 VSENSE2 (in) "Regulator 2 output voltage sense", 17 NC "No connection", 18 PG2 (hiz) "Open drain output, low when VOUT2 voltage is less than 95% of the nominal regulated voltage", 19 PG1 (hiz) "Open drain output, low when VOUT1 voltage is less than 95% of the nominal regulated voltage", 20 NC "No connection", 21 VSENSE1 (in) "Regulator 1 output voltage sense", 22 VOUT1 (power) "Output voltage of regulator 1", 23 VOUT1 (power) "Output voltage of regulator 1"
part B pins: 1 GND/HEATSINK (power) "Ground/heatsink", 9 GND (power) "Ground", 12 GND/HEATSINK (power) "Ground/heatsink", 13 GND/HEATSINK (power) "Ground/heatsink", 24 GND/HEATSINK (power) "Ground/heatsink", 25 EP "Exposed Thermal Pad"

## TPS70451PWPG4
designator U?
Dual Output LDO, 1 A, Fixed 3.3, 1.8 V Output, 2.7 to 6 V Input, with Integrated SVS, 24-pin HTSSOP (PWP), -40 to 125 degC, Green (RoHS & no Sb/Br); Manufacturer: Texas Instruments; PartNumber: TPS70451PWPG4; Iout(Max)(A): 1; Iout2(A): 2; Iq(Typ)(mA): 0.18; SubFamily: Dual Channel LDO; Vdo(Typ)(mV): 160; Vin(Max)(V): 6; Vin(Min)(V): 2.7; Vout(Max)(V): 3.3; Vout2(Max)(V): 1.8; DatasheetVersion: SLVS307F; PackageVersion: 4073225-5/I; PackageReference: PWP24-4210X2010TP; PackageDescription: 24-Pin Plastic Small Outline, Body 4.4 x 7.8 mm, Pitch 0.65 mm; Supplier 1: Digi-Key; Supplier Part Number 1: TPS70451PWPG4-ND; Supplier 2: Mouser; Supplier Part Number 2: 595-TPS70451PWPG4; Eco-Plan: Green (RoHS & no Sb/Br); Fixed Output Options(V): 3.3, 1.8; Vout(Min)(V): 3.3; Vout2(Min)(V): 1.8; Mounting Technology: Surface Mount; Code_JEDEC: MO-153; ComponentLink1Description: Manufacturer URL; ComponentLink1URL: http://www.ti.com/; ComponentLink2Description: Datasheet; ComponentLink2URL: http://www.ti.com/general/docs/lit/getliterature.tsp?genericPartNumber=TPS70451&fileType=pdf; ComponentLink3Description: Package Specification; ComponentLink3URL: http://www.ti.com/litv/pdf/mpds372
footprint TI-PWP24-4210X2010TP_N (SOP, 24-Leads, Body 7.8x4.4mm, Pitch 0.65mm, Thermal Pad 4.205X2.005mm, IPC Medium Density)
footprint TI-PWP24-4210X2010TP_L (SOP, 24-Leads, Body 7.8x4.4mm, Pitch 0.65mm, Thermal Pad 4.205X2.005mm, IPC High Density)
footprint TI-PWP24-4210X2010TP_M (SOP, 24-Leads, Body 7.8x4.4mm, Pitch 0.65mm, Thermal Pad 4.205X2.005mm, IPC Low Density)
part A pins: 2 VIN1 (power) "Input voltage of regulator 1", 3 VIN1 (power) "Input voltage of regulator 1", 4 NC "No connection", 5 ~{MR} (in) "Manual reset input, active low, pulled up internally", 6 ~{EN1} (in) "Active low enable for VOUT1", 7 ~{EN2} (in) "Active low enable for VOUT2", 8 ~{RESET} (hiz) "Open drain output, SVS (power-on reset) signal, active low", 10 VIN2 (power) "Input voltage of regulator 2", 11 VIN2 (power) "Input voltage of regulator 2", 14 VOUT2 (power) "Output voltage of regulator 2", 15 VOUT2 (power) "Output voltage of regulator 2", 16 VSENSE2 (in) "Regulator 2 output voltage sense", 17 NC "No connection", 18 PG2 (hiz) "Open drain output, low when VOUT2 voltage is less than 95% of the nominal regulated voltage", 19 PG1 (hiz) "Open drain output, low when VOUT1 voltage is less than 95% of the nominal regulated voltage", 20 NC "No connection", 21 VSENSE1 (in) "Regulator 1 output voltage sense", 22 VOUT1 (power) "Output voltage of regulator 1", 23 VOUT1 (power) "Output voltage of regulator 1"
part B pins: 1 GND/HEATSINK (power) "Ground/heatsink", 9 GND (power) "Ground", 12 GND/HEATSINK (power) "Ground/heatsink", 13 GND/HEATSINK (power) "Ground/heatsink", 24 GND/HEATSINK (power) "Ground/heatsink", 25 EP "Exposed Thermal Pad"

## TPS70451PWPR
designator U?
Dual Output LDO, 1 A, Fixed 3.3, 1.8 V Output, 2.7 to 6 V Input, with Integrated SVS, 24-pin HTSSOP (PWP), -40 to 125 degC, Green (RoHS & no Sb/Br); Manufacturer: Texas Instruments; PartNumber: TPS70451PWPR; Iout(Max)(A): 1; Iout2(A): 2; Iq(Typ)(mA): 0.18; SubFamily: Dual Channel LDO; Vdo(Typ)(mV): 160; Vin(Max)(V): 6; Vin(Min)(V): 2.7; Vout(Max)(V): 3.3; Vout2(Max)(V): 1.8; DatasheetVersion: SLVS307F; PackageVersion: 4073225-5/I; PackageReference: PWP24-4210X2010TP; PackageDescription: 24-Pin Plastic Small Outline, Body 4.4 x 7.8 mm, Pitch 0.65 mm; Supplier 1: Digi-Key; Supplier Part Number 1: TPS70451PWPR-ND; Supplier 2: Mouser; Supplier Part Number 2: 595-TPS70451PWPR; Eco-Plan: Green (RoHS & no Sb/Br); Fixed Output Options(V): 3.3, 1.8; Vout(Min)(V): 3.3; Vout2(Min)(V): 1.8; Mounting Technology: Surface Mount; Code_JEDEC: MO-153; ComponentLink1Description: Manufacturer URL; ComponentLink1URL: http://www.ti.com/; ComponentLink2Description: Datasheet; ComponentLink2URL: http://www.ti.com/general/docs/lit/getliterature.tsp?genericPartNumber=TPS70451&fileType=pdf; ComponentLink3Description: Package Specification; ComponentLink3URL: http://www.ti.com/litv/pdf/mpds372
footprint TI-PWP24-4210X2010TP_N (SOP, 24-Leads, Body 7.8x4.4mm, Pitch 0.65mm, Thermal Pad 4.205X2.005mm, IPC Medium Density)
footprint TI-PWP24-4210X2010TP_L (SOP, 24-Leads, Body 7.8x4.4mm, Pitch 0.65mm, Thermal Pad 4.205X2.005mm, IPC High Density)
footprint TI-PWP24-4210X2010TP_M (SOP, 24-Leads, Body 7.8x4.4mm, Pitch 0.65mm, Thermal Pad 4.205X2.005mm, IPC Low Density)
part A pins: 2 VIN1 (power) "Input voltage of regulator 1", 3 VIN1 (power) "Input voltage of regulator 1", 4 NC "No connection", 5 ~{MR} (in) "Manual reset input, active low, pulled up internally", 6 ~{EN1} (in) "Active low enable for VOUT1", 7 ~{EN2} (in) "Active low enable for VOUT2", 8 ~{RESET} (hiz) "Open drain output, SVS (power-on reset) signal, active low", 10 VIN2 (power) "Input voltage of regulator 2", 11 VIN2 (power) "Input voltage of regulator 2", 14 VOUT2 (power) "Output voltage of regulator 2", 15 VOUT2 (power) "Output voltage of regulator 2", 16 VSENSE2 (in) "Regulator 2 output voltage sense", 17 NC "No connection", 18 PG2 (hiz) "Open drain output, low when VOUT2 voltage is less than 95% of the nominal regulated voltage", 19 PG1 (hiz) "Open drain output, low when VOUT1 voltage is less than 95% of the nominal regulated voltage", 20 NC "No connection", 21 VSENSE1 (in) "Regulator 1 output voltage sense", 22 VOUT1 (power) "Output voltage of regulator 1", 23 VOUT1 (power) "Output voltage of regulator 1"
part B pins: 1 GND/HEATSINK (power) "Ground/heatsink", 9 GND (power) "Ground", 12 GND/HEATSINK (power) "Ground/heatsink", 13 GND/HEATSINK (power) "Ground/heatsink", 24 GND/HEATSINK (power) "Ground/heatsink", 25 EP "Exposed Thermal Pad"

## TPS70451PWPRG4
designator U?
Dual Output LDO, 1 A, Fixed 3.3, 1.8 V Output, 2.7 to 6 V Input, with Integrated SVS, 24-pin HTSSOP (PWP), -40 to 125 degC, Green (RoHS & no Sb/Br); Manufacturer: Texas Instruments; PartNumber: TPS70451PWPRG4; Iout(Max)(A): 1; Iout2(A): 2; Iq(Typ)(mA): 0.18; SubFamily: Dual Channel LDO; Vdo(Typ)(mV): 160; Vin(Max)(V): 6; Vin(Min)(V): 2.7; Vout(Max)(V): 3.3; Vout2(Max)(V): 1.8; DatasheetVersion: SLVS307F; PackageVersion: 4073225-5/I; PackageReference: PWP24-4210X2010TP; PackageDescription: 24-Pin Plastic Small Outline, Body 4.4 x 7.8 mm, Pitch 0.65 mm; Supplier 1: Digi-Key; Supplier Part Number 1: TPS70451PWPRG4-ND; Supplier 2: Mouser; Supplier Part Number 2: 595-TPS70451PWPRG4; Eco-Plan: Green (RoHS & no Sb/Br); Fixed Output Options(V): 3.3, 1.8; Vout(Min)(V): 3.3; Vout2(Min)(V): 1.8; Mounting Technology: Surface Mount; Code_JEDEC: MO-153; ComponentLink1Description: Manufacturer URL; ComponentLink1URL: http://www.ti.com/; ComponentLink2Description: Datasheet; ComponentLink2URL: http://www.ti.com/general/docs/lit/getliterature.tsp?genericPartNumber=TPS70451&fileType=pdf; ComponentLink3Description: Package Specification; ComponentLink3URL: http://www.ti.com/litv/pdf/mpds372
footprint TI-PWP24-4210X2010TP_N (SOP, 24-Leads, Body 7.8x4.4mm, Pitch 0.65mm, Thermal Pad 4.205X2.005mm, IPC Medium Density)
footprint TI-PWP24-4210X2010TP_L (SOP, 24-Leads, Body 7.8x4.4mm, Pitch 0.65mm, Thermal Pad 4.205X2.005mm, IPC High Density)
footprint TI-PWP24-4210X2010TP_M (SOP, 24-Leads, Body 7.8x4.4mm, Pitch 0.65mm, Thermal Pad 4.205X2.005mm, IPC Low Density)
part A pins: 2 VIN1 (power) "Input voltage of regulator 1", 3 VIN1 (power) "Input voltage of regulator 1", 4 NC "No connection", 5 ~{MR} (in) "Manual reset input, active low, pulled up internally", 6 ~{EN1} (in) "Active low enable for VOUT1", 7 ~{EN2} (in) "Active low enable for VOUT2", 8 ~{RESET} (hiz) "Open drain output, SVS (power-on reset) signal, active low", 10 VIN2 (power) "Input voltage of regulator 2", 11 VIN2 (power) "Input voltage of regulator 2", 14 VOUT2 (power) "Output voltage of regulator 2", 15 VOUT2 (power) "Output voltage of regulator 2", 16 VSENSE2 (in) "Regulator 2 output voltage sense", 17 NC "No connection", 18 PG2 (hiz) "Open drain output, low when VOUT2 voltage is less than 95% of the nominal regulated voltage", 19 PG1 (hiz) "Open drain output, low when VOUT1 voltage is less than 95% of the nominal regulated voltage", 20 NC "No connection", 21 VSENSE1 (in) "Regulator 1 output voltage sense", 22 VOUT1 (power) "Output voltage of regulator 1", 23 VOUT1 (power) "Output voltage of regulator 1"
part B pins: 1 GND/HEATSINK (power) "Ground/heatsink", 9 GND (power) "Ground", 12 GND/HEATSINK (power) "Ground/heatsink", 13 GND/HEATSINK (power) "Ground/heatsink", 24 GND/HEATSINK (power) "Ground/heatsink", 25 EP "Exposed Thermal Pad"

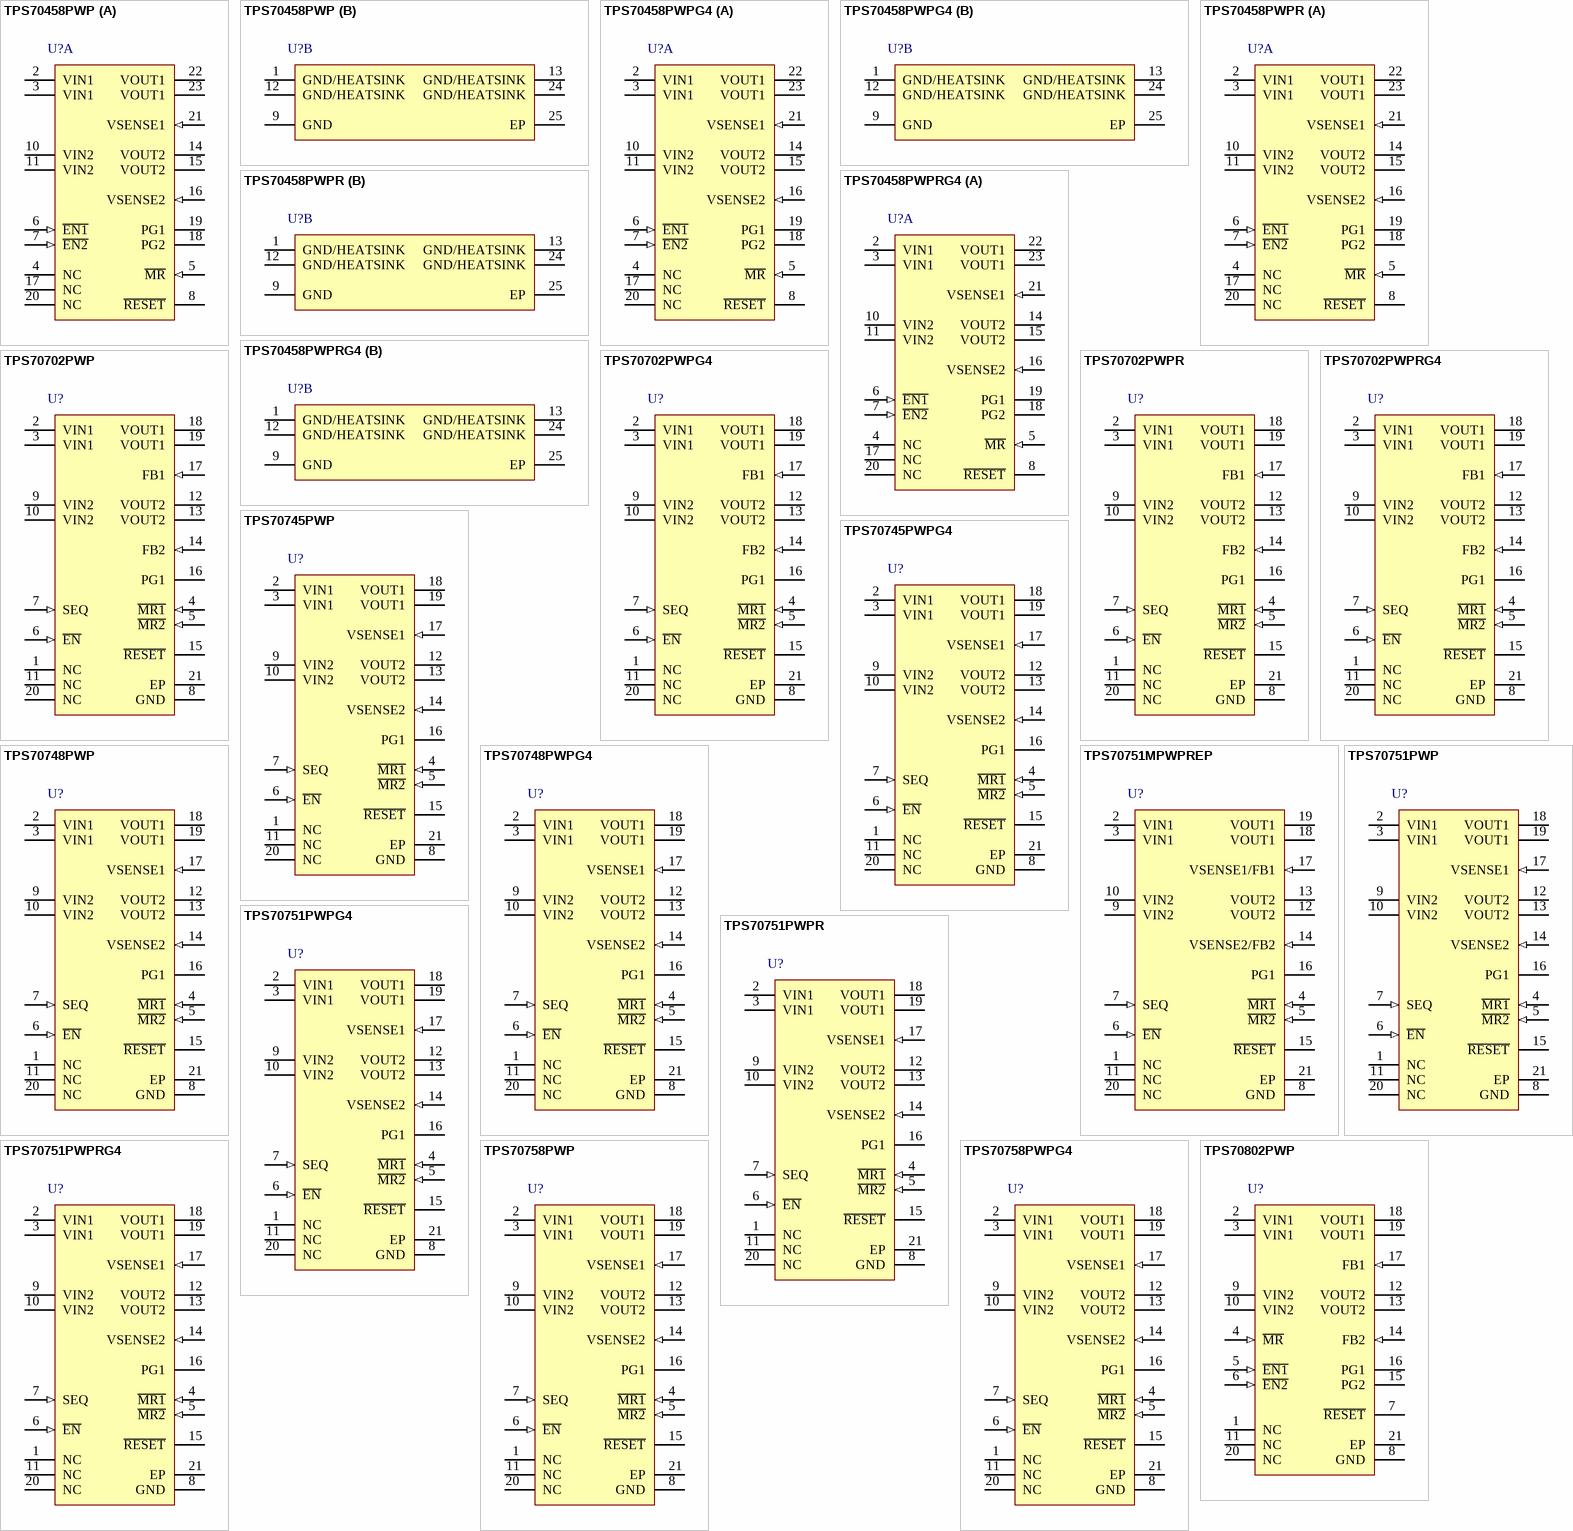
[diagram p8: symbols TPS70458PWP to TPS70802PWP]

## TPS70458PWP
designator U?
Dual Output LDO, 1 A, Fixed 3.3, 2.5 V Output, 2.7 to 6 V Input, with Integrated SVS, 24-pin HTSSOP (PWP), -40 to 125 degC, Green (RoHS & no Sb/Br); Manufacturer: Texas Instruments; PartNumber: TPS70458PWP; Iout(Max)(A): 1; Iout2(A): 2; Iq(Typ)(mA): 0.18; SubFamily: Dual Channel LDO; Vdo(Typ)(mV): 160; Vin(Max)(V): 6; Vin(Min)(V): 2.7; Vout(Max)(V): 3.3; Vout2(Max)(V): 2.5; DatasheetVersion: SLVS307F; PackageVersion: 4073225-5/I; PackageReference: PWP24-4210X2010TP; PackageDescription: 24-Pin Plastic Small Outline, Body 4.4 x 7.8 mm, Pitch 0.65 mm; Supplier 1: Digi-Key; Supplier Part Number 1: 296-8030-5-ND; Supplier 2: Newark; Supplier Part Number 2: 77C0778; Supplier 3: Mouser; Supplier Part Number 3: 595-TPS70458PWP; Eco-Plan: Green (RoHS & no Sb/Br); Fixed Output Options(V): 3.3, 2.5; Vout(Min)(V): 3.3; Vout2(Min)(V): 2.5; Mounting Technology: Surface Mount; Code_JEDEC: MO-153; ComponentLink1Description: Manufacturer URL; ComponentLink1URL: http://www.ti.com/; ComponentLink2Description: Datasheet; ComponentLink2URL: http://www.ti.com/general/docs/lit/getliterature.tsp?genericPartNumber=TPS70458&fileType=pdf; ComponentLink3Description: Package Specification; ComponentLink3URL: http://www.ti.com/litv/pdf/mpds372
footprint TI-PWP24-4210X2010TP_N (SOP, 24-Leads, Body 7.8x4.4mm, Pitch 0.65mm, Thermal Pad 4.205X2.005mm, IPC Medium Density)
footprint TI-PWP24-4210X2010TP_L (SOP, 24-Leads, Body 7.8x4.4mm, Pitch 0.65mm, Thermal Pad 4.205X2.005mm, IPC High Density)
footprint TI-PWP24-4210X2010TP_M (SOP, 24-Leads, Body 7.8x4.4mm, Pitch 0.65mm, Thermal Pad 4.205X2.005mm, IPC Low Density)
part A pins: 2 VIN1 (power) "Input voltage of regulator 1", 3 VIN1 (power) "Input voltage of regulator 1", 4 NC "No connection", 5 ~{MR} (in) "Manual reset input, active low, pulled up internally", 6 ~{EN1} (in) "Active low enable for VOUT1", 7 ~{EN2} (in) "Active low enable for VOUT2", 8 ~{RESET} (hiz) "Open drain output, SVS (power-on reset) signal, active low", 10 VIN2 (power) "Input voltage of regulator 2", 11 VIN2 (power) "Input voltage of regulator 2", 14 VOUT2 (power) "Output voltage of regulator 2", 15 VOUT2 (power) "Output voltage of regulator 2", 16 VSENSE2 (in) "Regulator 2 output voltage sense", 17 NC "No connection", 18 PG2 (hiz) "Open drain output, low when VOUT2 voltage is less than 95% of the nominal regulated voltage", 19 PG1 (hiz) "Open drain output, low when VOUT1 voltage is less than 95% of the nominal regulated voltage", 20 NC "No connection", 21 VSENSE1 (in) "Regulator 1 output voltage sense", 22 VOUT1 (power) "Output voltage of regulator 1", 23 VOUT1 (power) "Output voltage of regulator 1"
part B pins: 1 GND/HEATSINK (power) "Ground/heatsink", 9 GND (power) "Ground", 12 GND/HEATSINK (power) "Ground/heatsink", 13 GND/HEATSINK (power) "Ground/heatsink", 24 GND/HEATSINK (power) "Ground/heatsink", 25 EP "Exposed Thermal Pad"

## TPS70458PWPG4
designator U?
Dual Output LDO, 1 A, Fixed 3.3, 2.5 V Output, 2.7 to 6 V Input, with Integrated SVS, 24-pin HTSSOP (PWP), -40 to 125 degC, Green (RoHS & no Sb/Br); Manufacturer: Texas Instruments; PartNumber: TPS70458PWPG4; Iout(Max)(A): 1; Iout2(A): 2; Iq(Typ)(mA): 0.18; SubFamily: Dual Channel LDO; Vdo(Typ)(mV): 160; Vin(Max)(V): 6; Vin(Min)(V): 2.7; Vout(Max)(V): 3.3; Vout2(Max)(V): 2.5; DatasheetVersion: SLVS307F; PackageVersion: 4073225-5/I; PackageReference: PWP24-4210X2010TP; PackageDescription: 24-Pin Plastic Small Outline, Body 4.4 x 7.8 mm, Pitch 0.65 mm; Supplier 1: Digi-Key; Supplier Part Number 1: TPS70458PWPG4-ND; Supplier 2: Newark; Supplier Part Number 2: 58K6957; Supplier 3: Mouser; Supplier Part Number 3: 595-TPS70458PWPG4; Eco-Plan: Green (RoHS & no Sb/Br); Fixed Output Options(V): 3.3, 2.5; Vout(Min)(V): 3.3; Vout2(Min)(V): 2.5; Mounting Technology: Surface Mount; Code_JEDEC: MO-153; ComponentLink1Description: Manufacturer URL; ComponentLink1URL: http://www.ti.com/; ComponentLink2Description: Datasheet; ComponentLink2URL: http://www.ti.com/general/docs/lit/getliterature.tsp?genericPartNumber=TPS70458&fileType=pdf; ComponentLink3Description: Package Specification; ComponentLink3URL: http://www.ti.com/litv/pdf/mpds372
footprint TI-PWP24-4210X2010TP_N (SOP, 24-Leads, Body 7.8x4.4mm, Pitch 0.65mm, Thermal Pad 4.205X2.005mm, IPC Medium Density)
footprint TI-PWP24-4210X2010TP_L (SOP, 24-Leads, Body 7.8x4.4mm, Pitch 0.65mm, Thermal Pad 4.205X2.005mm, IPC High Density)
footprint TI-PWP24-4210X2010TP_M (SOP, 24-Leads, Body 7.8x4.4mm, Pitch 0.65mm, Thermal Pad 4.205X2.005mm, IPC Low Density)
part A pins: 2 VIN1 (power) "Input voltage of regulator 1", 3 VIN1 (power) "Input voltage of regulator 1", 4 NC "No connection", 5 ~{MR} (in) "Manual reset input, active low, pulled up internally", 6 ~{EN1} (in) "Active low enable for VOUT1", 7 ~{EN2} (in) "Active low enable for VOUT2", 8 ~{RESET} (hiz) "Open drain output, SVS (power-on reset) signal, active low", 10 VIN2 (power) "Input voltage of regulator 2", 11 VIN2 (power) "Input voltage of regulator 2", 14 VOUT2 (power) "Output voltage of regulator 2", 15 VOUT2 (power) "Output voltage of regulator 2", 16 VSENSE2 (in) "Regulator 2 output voltage sense", 17 NC "No connection", 18 PG2 (hiz) "Open drain output, low when VOUT2 voltage is less than 95% of the nominal regulated voltage", 19 PG1 (hiz) "Open drain output, low when VOUT1 voltage is less than 95% of the nominal regulated voltage", 20 NC "No connection", 21 VSENSE1 (in) "Regulator 1 output voltage sense", 22 VOUT1 (power) "Output voltage of regulator 1", 23 VOUT1 (power) "Output voltage of regulator 1"
part B pins: 1 GND/HEATSINK (power) "Ground/heatsink", 9 GND (power) "Ground", 12 GND/HEATSINK (power) "Ground/heatsink", 13 GND/HEATSINK (power) "Ground/heatsink", 24 GND/HEATSINK (power) "Ground/heatsink", 25 EP "Exposed Thermal Pad"